# Altium schematic symbol library SCHLib_Bezliudov.SchLib: 179 symbols
Pins are listed as number, name and electrical type; pins without a type are passive.

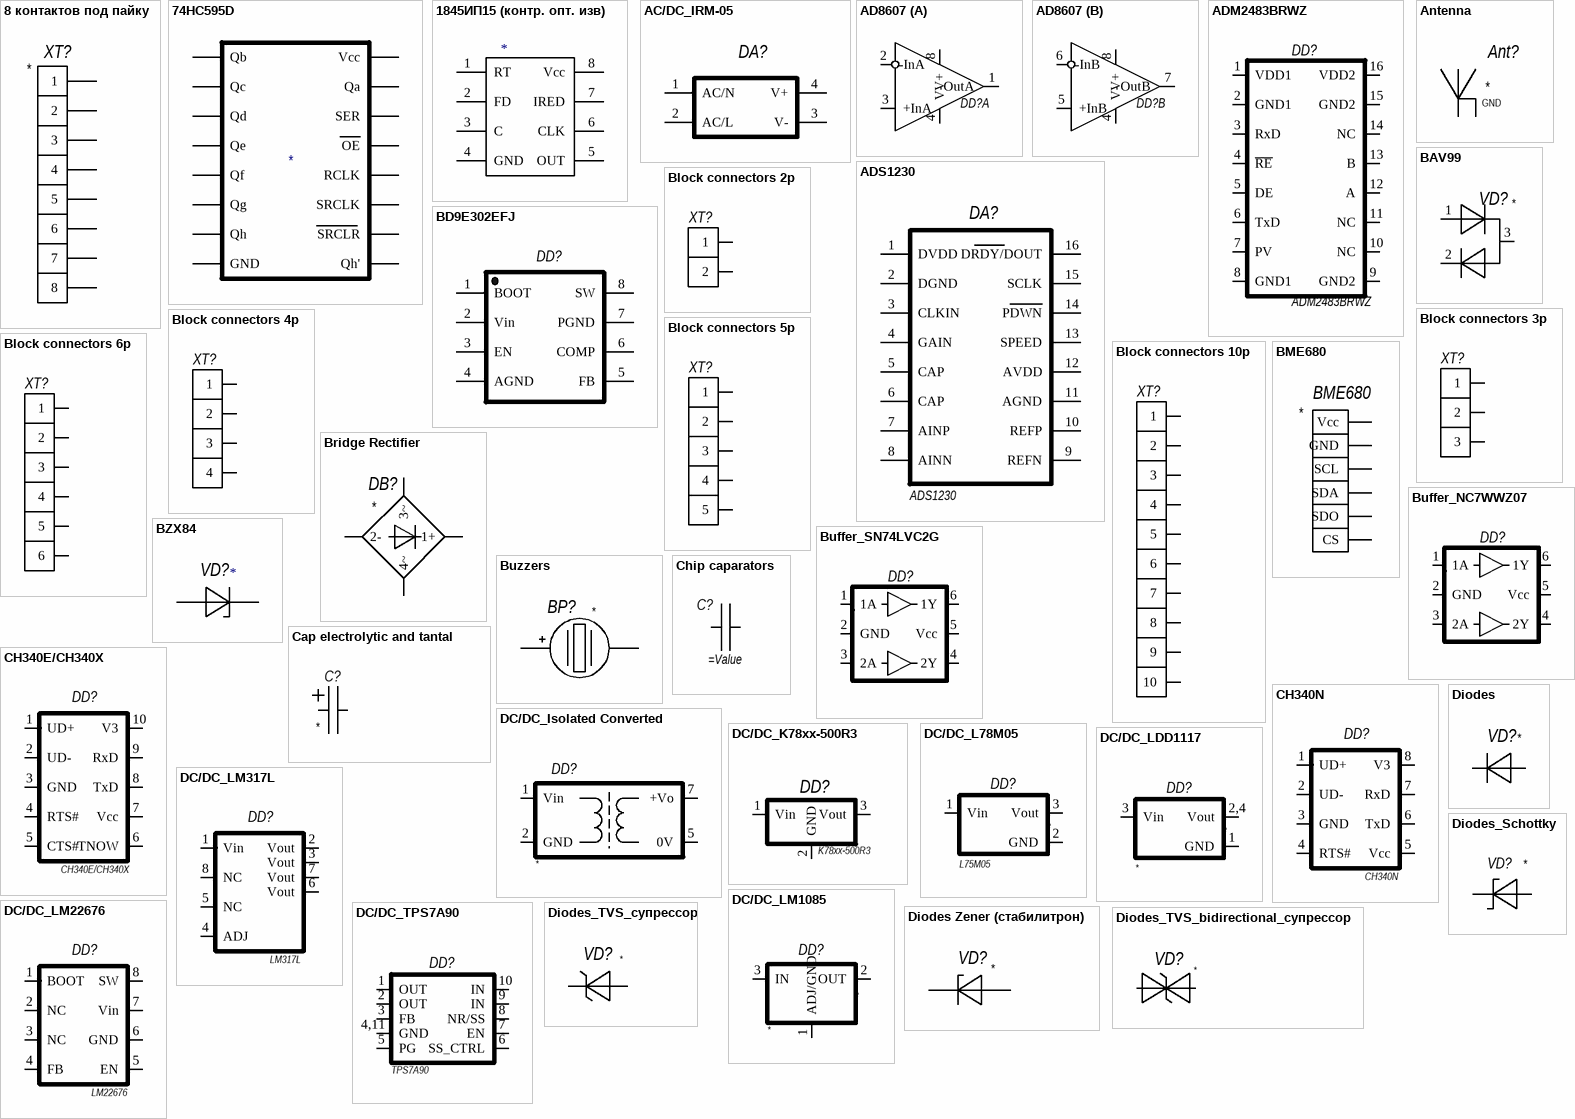
[diagram p0: symbols 8 контактов под пайку to Diodes_TVS_супрессор]

## 8 контактов под пайку
designator XT?
footprint 8 контактов под пайку_шаг 2,5мм
pins: 1, 2, 3, 4, 5, 6, 7, 8

## 74HC595D
designator *
footprint SO-16
pins: 1 Qb, 2 Qc, 3 Qd, 4 Qe, 5 Qf, 6 Qg, 7 Qh, 8 GND, 9 Qh', 10 SRCLR, 11 SRCLK, 12 RCLK, 13 OE, 14 SER, 15 Qa, 16 Vcc

## 1845ИП15 (контр. опт. изв)
designator *  (value not drawn)
footprint SO8
pins: 1 RT, 2 FD, 3 C, 4 GND, 5 OUT, 6 CLK, 7 IRED, 8 Vcc

## AC/DC_IRM-05
designator DA?, comment IRM-05  (value not drawn)
footprint IRM-05-10...
pins: 1 AC/N, 2 AC/L, 3 V-, 4 V+

## AD8607
designator DD?  (value not drawn)
SOIC-8
footprint SO8
part A pins: 1 OutA, 2 -InA, 3 +InA, 4 V-, 8 V+
part B pins: 4 V-, 5 +InB, 6 -InB, 7 OutB, 8 V+

## ADM2483BRWZ
designator DD?
footprint SO-16 Wide Body (RW-16)
pins: 1 VDD1, 2 GND1, 3 RxD, 4 ~{RE}, 5 DE, 6 TxD, 7 PV, 8 GND1, 9 GND2, 10 NC, 11 NC, 12 A, 13 B, 14 NC, 15 GND2, 16 VDD2

## ADS1230
designator DA?
footprint TSSOP16 (TSOP, 20-Leads, Body 6,50x4,40mm, Pitch 0,65mm, IPC Medium Density)
pins: 1 DVDD, 2 DGND, 3 CLKIN, 4 GAIN, 5 CAP, 6 CAP, 7 AINP, 8 AINN, 9 REFN, 10 REFP, 11 AGND, 12 AVDD, 13 SPEED, 14 PDWN, 15 SCLK, 16 DRDY/DOUT

## Antenna
designator Ant?
footprint KLS1-SMA001
footprint KLS1-SMA001 with straight antenna
pins: 1 Ant, 2 GND

## BAV99
designator VD?
footprint SOT-23 micro
footprint SOT-23
pins: 1, 2, 3

## BD9E302EFJ
designator DD?  (value not drawn)
ST1S10PHR: *
footprint BD9E302REFJ (HTSOP-J8)
pins: 1 BOOT, 2 Vin, 3 EN, 4 AGND, 5 FB, 6 COMP, 7 PGND, 8 SW

## Block connectors 2p
designator XT?  (value not drawn)
footprint Block connectors_angle_2pin-5.00mm (~? TLPHC-200R)
pins: 1, 2

## Block connectors 3p
designator XT?  (value not drawn)
footprint Block connectors_angle_3pin-5.00mm (~? TLPHC-200R)
pins: 1, 2, 3

## Block connectors 4p
designator XT?  (value not drawn)
footprint Block connectors_angle_4pin-5.00mm (~? TLPHC-200R)
pins: 1, 2, 3, 4

## Block connectors 5p
designator XT?  (value not drawn)
footprint Block connectors_angle_5pin-5.00mm (~? TLPHC-200R)
pins: 1, 2, 3, 4, 5

## Block connectors 6p
designator XT?  (value not drawn)
footprint Block connectors_angle_6pin-5.00mm (~? TLPHC-200R)
pins: 1, 2, 3, 4, 5, 6

## Block connectors 10p
designator XT?  (value not drawn)
footprint Block connectors_angle_10pin-5.00mm (~? TLPHC-200R)
pins: 1, 2, 3, 4, 5, 6, 7, 8, 9, 10

## BME680
designator BME680
footprint BME680
pins: 1 Vcc, 2 GND, 3 SCL, 4 SDA, 5 SDO, 6 CS

## Bridge Rectifier
designator DB?
footprint Диодный мост DB-107S
footprint MBS
pins: 1+, 2-, 3~, 4~

## Buffer_NC7WWZ07
designator DD?
Open Drain Outputs; ST1S10PHR: *
footprint SC-70-6
pins: 1 1A, 2 GND, 3 2A, 4 2Y, 5 Vcc, 6 1Y

## Buffer_SN74LVC2G
designator DD?
Open Drain Outputs; ST1S10PHR: *
footprint DVB (R-PDSO-G6)
footprint SC-70-6
pins: 1 1A, 2 GND, 3 2A, 4 2Y, 5 Vcc, 6 1Y

## Buzzers
designator BP?
footprint Buzzer KPT-2210
footprint Buzzer KPI-G2210
footprint Buzzer KPI-G1410
pins: 1, 2

## BZX84
designator VD?
footprint SOT-23
pins: 1 Anode, 2 Cathode

## Cap electrolytic and tantal
designator C?
footprint CAP 10mm 13x94mm
footprint Cap K50-35 (шаг5мм)
footprint Cap К50-35 (шаг7.5мм)
footprint Cap K50-35 (2.5x6.3x11mm)
footprint Cap K50-35 (2X5X11mm)
footprint Cap K50-35 (2.5x6.3x11mm) -Andgle
footprint Cap K50-35 (2X5X11mm) angle
footprint Electrolytic cap (13x20x5mm)
footprint Tantal case A
footprint Tantal case B
footprint Tantal case C
footprint Tantal case D
footprint Tantal case E
pins: 1 +, 2 -

## CH340E/CH340X
designator DD?
ST1S10PHR: *
footprint MSOP-10
pins: 1 UD+, 2 UD-, 3 GND, 4 RTS#, 5 CTS#, 6 TNOW, 7 Vcc, 8 TxD, 9 RxD, 10 V3

## CH340N
designator DD?
ST1S10PHR: *
footprint SO8
pins: 1 UD+, 2 UD-, 3 GND, 4 RTS#, 5 Vcc, 6 TxD, 7 RxD, 8 V3

## Chip caparators
designator C?
footprint Cap 0805_h=0,6mm
footprint Cap 0805_h=1.25mm
footprint Cap 1206_h=1.6mm
footprint Cap 1210_h=1,7mm
footprint Cap 0603
footprint Cap 0603 oval
footprint Cap 0805_h=0,6mm oval
footprint Cap 0805_h=1.25mm oval
footprint Cap 1206_h=1.6mm oval
footprint Cap 1210_h=1,7mm oval
footprint Cap 0402 OVAL
footprint Cap 0402
pins: 1 +, 2 -

## DC/DC_Isolated Converted
designator DD?
AM1D, F0505S-1WR3
footprint F0505S Single Output
pins: 1 Vin, 2 GND, 5 0V, 7 +Vo

## DC/DC_K78xx-500R3
designator DD?, comment K78xx-500R3
footprint K78xx-500R3
pins: 1 Vin, 2 GND, 3 Vout

## DC/DC_L78M05
designator DD?, comment L75M05
footprint TO-252 (DPAK)
pins: 1 Vin, 2 GND, 3 Vout

## DC/DC_LDD1117
designator DD?
footprint SOT-223
pins: 1 GND, 2,4 Vout, 3 Vin

## DC/DC_LM317L
designator DD?, comment LM317L
ST1S10PHR: *
footprint SO8
pins: 1 Vin, 2 Vout, 3 Vout, 4 ADJ, 5 NC, 6 Vout, 7 Vout, 8 NC

## DC/DC_LM1085
designator DD?
footprint DDPAK/TO-263 3pins
pins: 1 ADJ/GND, 2 OUT, 3 IN

## DC/DC_LM22676
designator DD?, comment LM22676
ST1S10PHR: *
footprint SO8 with termal pad
pins: 1 BOOT, 2 NC, 3 NC, 4 FB, 5 EN, 6 GND, 7 Vin, 8 SW

## DC/DC_TPS7A90
designator DD?, comment TPS7A90
TPS7A90 / 500-mA, High-Accuracy, Low-Noise LDO Voltage Regulator
footprint WSON-10 (2.5x2.5mm)
pins: 1 OUT, 2 OUT, 3 FB, 4,11 GND, 5 PG , 6 SS_CTRL, 7 EN, 8 NR/SS, 9 IN, 10 IN

## Diodes
designator VD?
footprint MELF/DO-213AB
footprint Diod_017AA
footprint Diod_DO-15
footprint Diod_DO-41
footprint Diod_DO-201
footprint SOD-80
footprint SOT-23 diod
footprint SOD-123
pins: 1, 2

## Diodes Zener (стабилитрон)
designator VD?
footprint SOD-80
footprint Zener Diode 1N5358_19mm (DO-15, DO-201AE)
footprint Zener Diode 1N5358_15.24mm (DO-15, DO-201AE)
footprint Zener Diode 1N5352_12mm (017AA)
footprint Diod_017AA
footprint Diod_DO-15
footprint Diod_DO-41
footprint Diod_DO-201
footprint SMB 403A-03
pins: 1, 2

## Diodes_Schottky
designator VD?
footprint Diod_shottki_SK16
footprint Diod_017AA
footprint Diod_DO-15
footprint Diod_DO-41
footprint Diod_DO-201
footprint Diod_DO-201_Pnanar
footprint DO-214AB, SMC
footprint DO-214AC, SMA
pins: 1, 2

## Diodes_TVS_bidirectional_супрессор
designator VD?
footprint DO-214AB, SMC, bidirectional (bidirectional)
footprint DO-214AA, SMB, bidirectional (bidirectional)
pins: 1, 2

## Diodes_TVS_супрессор
designator VD?
footprint SM6T
footprint Diod_017AA
footprint Diod_DO-15
footprint Diod_DO-41
footprint Diod_DO-201
footprint DO-214AB, SMC
footprint DO-214AA, SMB
pins: 1, 2

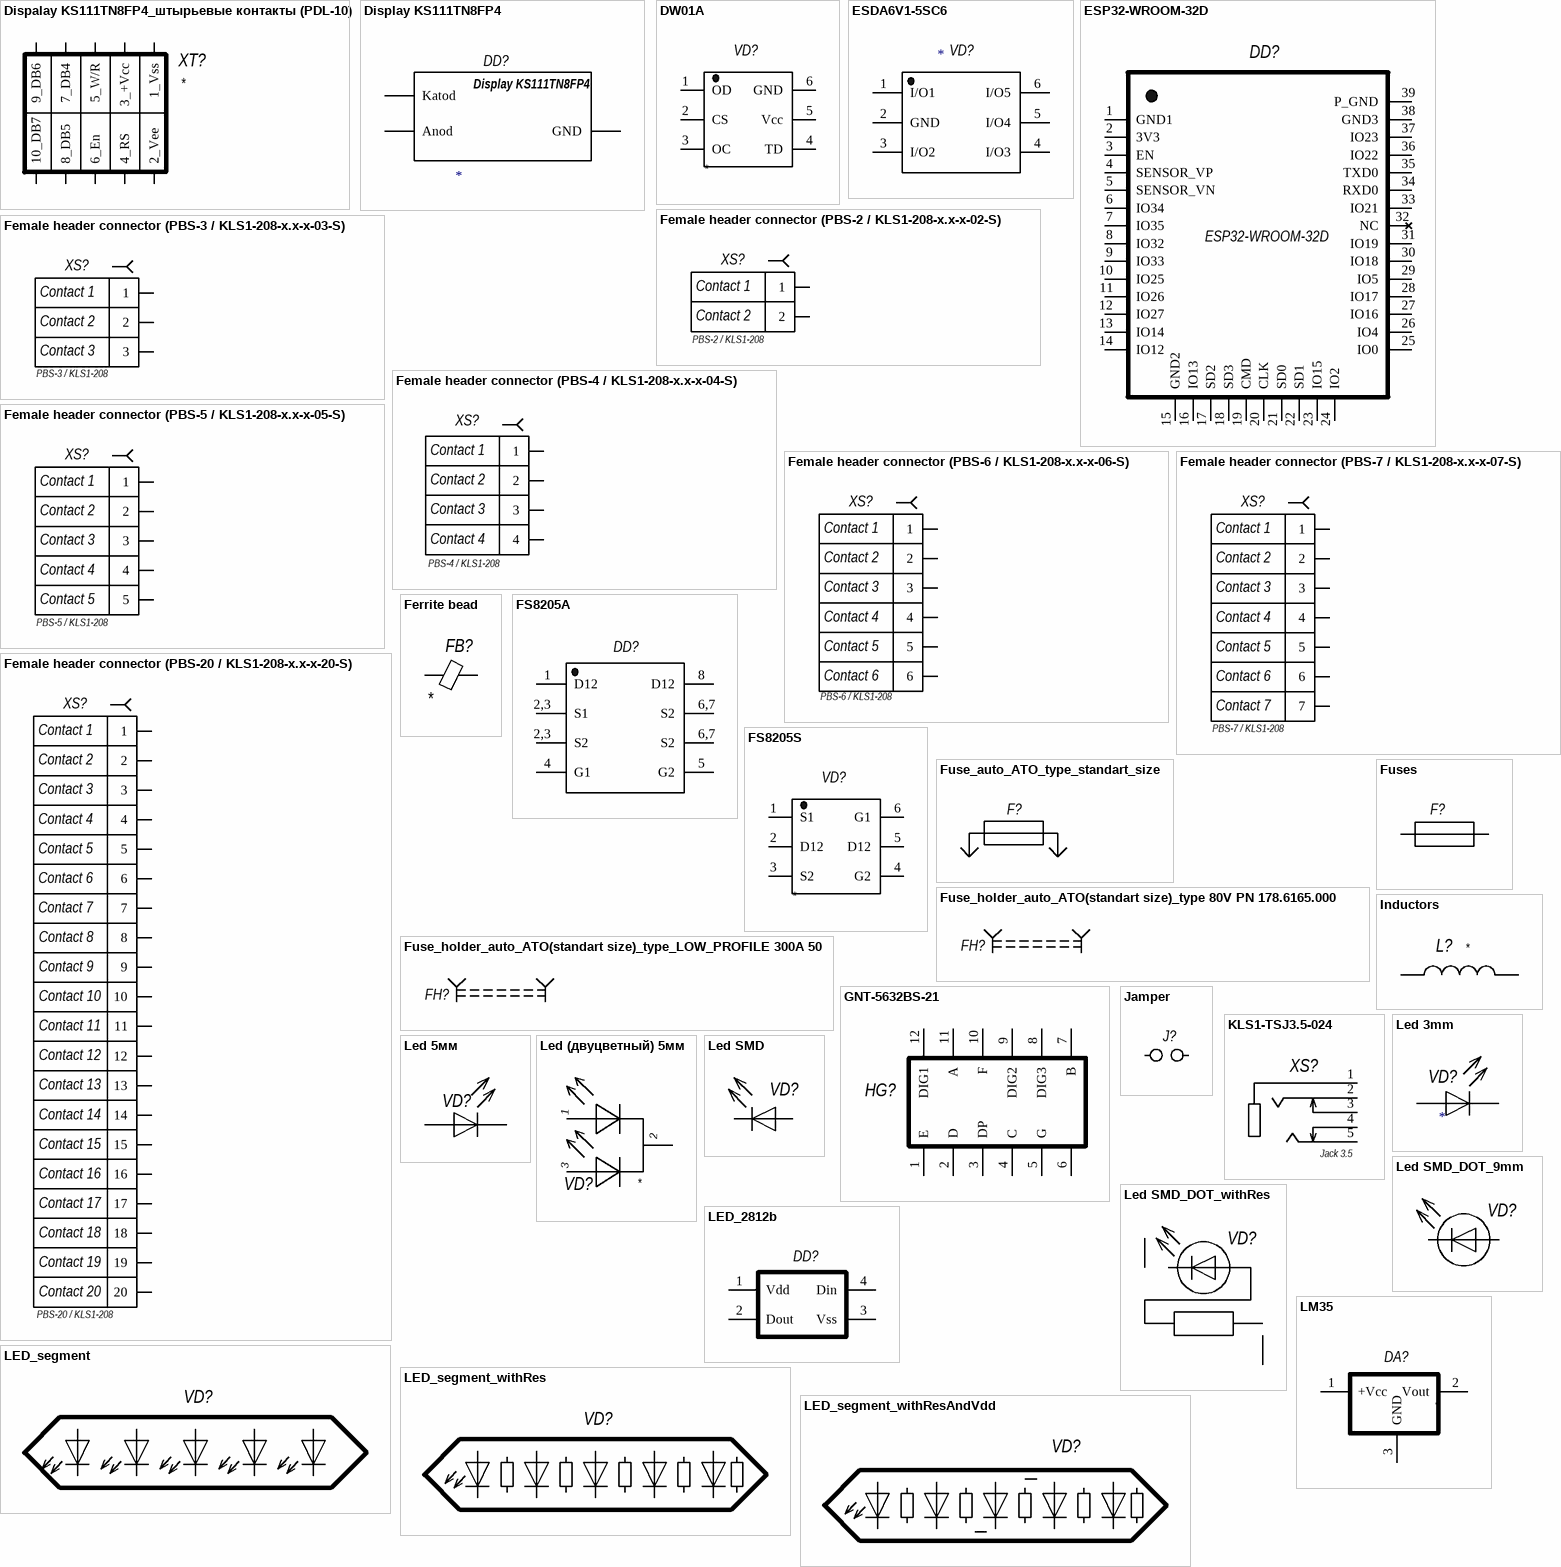
[diagram p1: symbols Dispalay KS111TN8FP4_штырьевые контакты (PDL-10) to LM35]

## Dispalay KS111TN8FP4_штырьевые контакты (PDL-10)
designator XT?
footprint PLD-10 (Штыри 2.54) for display KS118TN8FP4
pins: 1 1_Vss, 2 2_Vee, 3 3_+Vcc, 4 4_RS, 5 5_W/R, 6 6_En, 7 7_DB4, 8 8_DB5, 9 9_DB6, 10 10_DB7

## Display KS111TN8FP4
designator DD?
footprint Display KS111TN8FP4
pins: 1 GND, A Anod, K Katod

## DW01A
designator VD?
ST1S10PHR: *
footprint SOT23-6L
pins: 1 OD, 2 CS, 3 OC, 4 TD, 5 Vcc, 6 GND

## ESDA6V1-5SC6
designator VD?
ST1S10PHR: *
footprint SOT23-6L
pins: 1 I/O1, 2 GND, 3 I/O2, 4 I/O3, 5 I/O4, 6 I/O5

## ESP32-WROOM-32D
designator DD?
STM8S105: *
footprint ESP32_WROOM-32D
pins: 1 GND1, 2 3V3, 3 EN, 4 SENSOR_VP, 5 SENSOR_VN, 6 IO34, 7 IO35, 8 IO32, 9 IO33, 10 IO25, 11 IO26, 12 IO27, 13 IO14, 14 IO12, 15 GND2, 16 IO13, 17 SD2, 18 SD3, 19 CMD, 20 CLK, 21 SD0, 22 SD1, 23 IO15, 24 IO2, 25 IO0, 26 IO4, 27 IO16, 28 IO17, 29 IO5, 30 IO18, 31 IO19, 32 NC, 33 IO21, 34 RXD0, 35 TXD0, 36 IO22, 37 IO23, 38 GND3, 39 P_GND

## Female header connector (PBS-2 / KLS1-208-x.x-x-02-S)
designator XS?, comment PBS-2 / KLS1-208
Contact 2: Contact 2; Contact 1: Contact 1
footprint PBS-2 (DS1023) 2.54x8.5
footprint PBS-2 (DS1023) 2.54x5.0
pins: 1, 2

## Female header connector (PBS-3 / KLS1-208-x.x-x-03-S)
designator XS?, comment PBS-3 / KLS1-208
Contact 3: Contact 3; Contact 2: Contact 2; Contact 1: Contact 1
footprint PBS-3(DS1023) 2.54x8.5
footprint PBS-3(DS1023) 2.54x5.0
pins: 1, 2, 3

## Female header connector (PBS-4 / KLS1-208-x.x-x-04-S)
designator XS?, comment PBS-4 / KLS1-208
Contact 4: Contact 4; Contact 3: Contact 3; Contact 2: Contact 2; Contact 1: Contact 1
footprint PBS-4 (DS1023) 2.54x8.5
footprint PBS-4 (DS1023) 2.54x5.0
pins: 1, 2, 3, 4

## Female header connector (PBS-5 / KLS1-208-x.x-x-05-S)
designator XS?, comment PBS-5 / KLS1-208
Contact 5: Contact 5; Contact 4: Contact 4; Contact 3: Contact 3; Contact 2: Contact 2; Contact 1: Contact 1
footprint PBS-5 (DS1023) 2.54x8.5
footprint PBS-5 (DS1023) 2.54x5.0
pins: 1, 2, 3, 4, 5

## Female header connector (PBS-6 / KLS1-208-x.x-x-06-S)
designator XS?, comment PBS-6 / KLS1-208
Contact 6: Contact 6; Contact 5: Contact 5; Contact 4: Contact 4; Contact 3: Contact 3; Contact 2: Contact 2; Contact 1: Contact 1
footprint PBS-6 (DS1023) 2.54x8.5
footprint PBS-6 (DS1023) 2.54x5.0
pins: 1, 2, 3, 4, 5, 6

## Female header connector (PBS-7 / KLS1-208-x.x-x-07-S)
designator XS?, comment PBS-7 / KLS1-208
Contact 7: Contact 7; Contact 6: Contact 6; Contact 5: Contact 5; Contact 4: Contact 4; Contact 3: Contact 3; Contact 2: Contact 2; Contact 1: Contact 1
footprint PBS-7 (DS1023) 2.54x8.5
footprint PBS-7 (DS1023) 2.54x5.0
pins: 1, 2, 3, 4, 5, 6, 7

## Female header connector (PBS-20 / KLS1-208-x.x-x-20-S)
designator XS?, comment PBS-20 / KLS1-208
Contact 20: Contact 20; Contact 19: Contact 19; Contact 18: Contact 18; Contact 17: Contact 17; Contact 16: Contact 16; Contact 15: Contact 15; Contact 14: Contact 14; Contact 13: Contact 13; Contact 12: Contact 12; Contact 11: Contact 11; Contact 10: Contact 10; Contact 9: Contact 9; Contact 8: Contact 8; Contact 7: Contact 7; Contact 6: Contact 6; Contact 5: Contact 5; Contact 4: Contact 4; Contact 3: Contact 3; Contact 2: Contact 2; Contact 1: Contact 1
footprint PBS-20 (DS1023) 2.54x8.5
footprint PBS-20 (DS1023) 2.54x5.0
pins: 1, 2, 3, 4, 5, 6, 7, 8, 9, 10, 11, 12, 13, 14, 15, 16, 17, 18, 19, 20

## Ferrite bead
designator FB?
Model: *; Manufacture: *; HelpURL: *; Case: *; Value: *
footprint Ferrite Bead 0805
footprint Ferrite Bead 1206
pins: 1 *, 2 *

## FS8205A
designator DD?
ST1S10PHR: *
footprint TSSOP8 (TSOP, 20-Leads, Body 6,50x4,40mm, Pitch 0,65mm, IPC Medium Density)
pins: 1 D12, 2,3 S1, 2,3 S2, 4 G1, 5 G2, 6,7 S2, 6,7 S2, 8 D12

## FS8205S
designator VD?
ST1S10PHR: *
footprint SOT23-6L
pins: 1 S1, 2 D12, 3 S2, 4 G2, 5 D12, 6 G1

## Fuse_auto_ATO_type_standart_size
designator F?, comment xxA xxV  (value not drawn)
Fuse_auto_ATO_type_standart_size; Model: *; Manufacture: *; HelpURL: *; Case: *; Value: *
footprint Fuse_auto_ATO_type_standart_size_YELLOW (P/n 178.6165.0001, 178.6165.0002.  https://www.littelfuse.com/~/media/commercial-vehicle/datasheets/automotive-fuse-holders/ato/littelfuse-fuse-holder-ato-flr-pcb-datasheet.pdf)
footprint Fuse_auto_ATO_type_standart_size_RED (P/n 178.6165.0001, 178.6165.0002.  https://www.littelfuse.com/~/media/commercial-vehicle/datasheets/automotive-fuse-holders/ato/littelfuse-fuse-holder-ato-flr-pcb-datasheet.pdf)
footprint Fuse_auto_ATO_type_standart_size_PURPURE (P/n 178.6165.0001, 178.6165.0002.  https://www.littelfuse.com/~/media/commercial-vehicle/datasheets/automotive-fuse-holders/ato/littelfuse-fuse-holder-ato-flr-pcb-datasheet.pdf)
footprint Fuse_auto_ATO_type_standart_size_GREEN (P/n 178.6165.0001, 178.6165.0002.  https://www.littelfuse.com/~/media/commercial-vehicle/datasheets/automotive-fuse-holders/ato/littelfuse-fuse-holder-ato-flr-pcb-datasheet.pdf)
footprint Fuse_auto_ATO_type_standart_size_BROWN (P/n 178.6165.0001, 178.6165.0002.  https://www.littelfuse.com/~/media/commercial-vehicle/datasheets/automotive-fuse-holders/ato/littelfuse-fuse-holder-ato-flr-pcb-datasheet.pdf)
footprint Fuse_auto_ATO_type_standart_size_BLUE_LIGHT (P/n 178.6165.0001, 178.6165.0002.  https://www.littelfuse.com/~/media/commercial-vehicle/datasheets/automotive-fuse-holders/ato/littelfuse-fuse-holder-ato-flr-pcb-datasheet.pdf)
footprint Fuse_auto_ATO_type_standart_size_BLUE (P/n 178.6165.0001, 178.6165.0002.  https://www.littelfuse.com/~/media/commercial-vehicle/datasheets/automotive-fuse-holders/ato/littelfuse-fuse-holder-ato-flr-pcb-datasheet.pdf)

## Fuse_holder_auto_ATO(standart size)_type 80V PN 178.6165.000(1/2)
designator FH?, comment Fuse_holder PN 178.6165.000(1/2)  (value not drawn)
Fuse_holder_auto_ATO_type. PCB DIP mount. 2 or 8 pins. 80V https://www.littelfuse.com/media?resourcetype=datasheets&itemid=bef6771d-7ae2-4b18-8f55-8cde6402100a&filename=littelfuse-ato-flr-datasheet            https://aliexpress.ru/item/1005005184719801.html?spm=a2g2w.detail.rcmdprod.19.2bf912cb45UC37&mixer_rcmd_bucket_id=aerabtestalgoRecommendAbV14_controlRu1&ru_algo_pv_id=ab93ca-476f2e-eca094-b7133c-1706266800&scenario=pcDetailBottomMoreOtherSeller&sku_id=12000032019297144&traffic_source=recommendation&type_rcmd=core; Model: *; Manufacture: *; HelpURL: *; Case: *; Value: *
footprint Fuse_holder_auto_ATO(standart size)_type 22.5 A continuous current, 30A max (P/n 178.6165.0001, 178.6165.0002.  https://www.littelfuse.com/~/media/commercial-vehicle/datasheets/automotive-fuse-holders/ato/littelfuse-fuse-holder-ato-flr-pcb-datasheet.pdf)
pins: 1 *, 2 *

## Fuse_holder_auto_ATO(standart size)_type_LOW_PROFILE 300A 500V. PN 01000062Z
designator FH?, comment Fuse_holder_low_profile PN 01000062Z  (value not drawn)
Fuse_holder_auto_ATO(standart size)_type_LOW_PROFILE 300A 500V. PCB DIP mount. 4 pins. https://www.littelfuse.com/products/fuse-blocks-fuseholders-and-fuse-accessories/fuse-clips/100/100060.aspx; Model: *; Manufacture: *; HelpURL: *; Case: *; Value: *
footprint Fuse_holder_auto_ATO(standart size)_type_LOW_PROFILE 300A 500V (P/n 101000062Z.  https://www.littelfuse.com/products/fuse-blocks-fuseholders-and-fuse-accessories/fuse-clips/100.aspx)
pins: 1 *, 2 *

## Fuses
designator F?
Model: *; Manufacture: *; HelpURL: *; Case: *; Value: *
footprint FUSE SN010-60
footprint Fuse KL-104-90-2A
footprint Fuse R0603
footprint Fuse R0805
footprint Fuse R1206
footprint Fuse microSMDxxxF Series (3225mm/1210mils) (3225mm/1210mils)
footprint FUSE SMDxxxF Series (8763mm/3425mils) (8763mm/3425mils)
footprint FUSE SMDxxxF Series (7555mm/2920mils) (7555mm/2920mils)
pins: 1 *, 2 *

## GNT-5632BS-21
designator HG?, comment Common anod  (value not drawn)
footprint GNT-5632BS-21
pins: 1 E, 2 D, 3 DP, 4 C, 5 G, 6, 7 B, 8 DIG3, 9 DIG2, 10 F, 11 A, 12 DIG1

## Inductors
designator L?
footprint Inductors LQH55
footprint R1206-inductor
footprint Inductor CLF7045
footprint Inductor EC24
footprint Inductor SPRH127
footprint Inductors CD43
footprint Inductor CKST-0402
footprint 0603 inductor plane
footprint 0805 inductor plane
footprint 1206 inductor plane
footprint 1210 inductor plane
footprint DO3316P (SMT Power Inductor)
pins: 1, 2

## Jamper
designator J?
Model: *; Manufacture: *; HelpURL: *; Case: *; Value: *
footprint Jamper trace 1.4 x 0.3 clearence 0.2 (1.4 x 0.3 clearence 0.2)
footprint Jamper 1.3 x 0.4 clearence 0.2 (1.3 x 0.4 clearence 0.2)
footprint Jumper trace 0.6x2mm clearence 0.25mm
pins: 1 *, 2 *

## KLS1-TSJ3.5-024
designator XS?, comment Jack 3.5
footprint JC-115 / KLS1-TSJ3.5-024 (Jack 3.5)
pins: 1, 2, 3, 4, 5

## Led 3mm
designator VD?
footprint Led 3mm
pins: 1 *, 2 *

## Led 5мм
designator VD?  (value not drawn)
footprint Led 5mm
footprint Led 5mm Green
footprint Led 5mm White
footprint Led 5mm_низкий
footprint Led двуцв. 5мм._низкий
footprint Led 5mm 25мм
pins: 1 *, 2 *

## Led (двуцветный) 5мм
designator *, comment VD?
footprint Led двуцв. 5мм.
footprint Led двуцв. 5мм._низкий
footprint Led двуцв. 5мм. со стойкой 7,25мм
footprint Led двуцв. 5мм. со стойкой 10,7мм
footprint Led двуцв. 5мм. со стойкой 12,7мм
pins: 1, 2, 3

## Led SMD
designator VD?  (value not drawn)
footprint LED_0603_Blue
footprint LED_0603_Green
footprint LED_0603_RED
footprint LED_0603_Yellow
footprint LED_0805_RED
pins: 1 *, 2 *

## Led SMD_DOT_9mm
designator VD?  (value not drawn)
footprint LED_0805_RED_DOT_9mm
pins: 1 *, 2 *

## Led SMD_DOT_withRes
designator VD?  (value not drawn)
footprint LED_0805_RED_DOT_9mm_withRes
pins: 1 *, 1 *, 2 *, 2 *, 3 *, 3 *

## LED_2812b
designator DD?, comment 2812b  (value not drawn)
ST1S10PHR: *
footprint Led_2812b
pins: 1 Vdd, 2 Dout, 3 Vss, 4 Din

## LED_segment
designator VD?  (value not drawn)
footprint LED_segment_48mm
footprint LED_segment_44mm
pins: 1 *, 2 *, 3 *, 4 *, 5 *, 6 *, 7 *, 8 *, 9 *, 10 *

## LED_segment_withRes
designator VD?  (value not drawn)
footprint LED_segment_48mm_commonCat_withRes
footprint LED_segment_44mm_commonCat_withRes
pins: 1 *, 2 *, 3 *, 4 *, 5 *, 6 *, 7 *, 8 *, 9 *, 10 *, 11 *, 12 *, 13 *, 14 *, 15 *, 16 *, 17 *, 18 *, 19 *, 20 *

## LED_segment_withResAndVdd
designator VD?  (value not drawn)
footprint LED_segment_48mm_commonCat_withResAndVdd
pins: 1 GND, 1 GND, 1 GND, 1 GND, 1 GND, 1 *, 2 +V, 2 +V, 2 +V, 2 +V, 2 +V, 2 *, 3 *, 3 *, 4 *, 4 *, 5 *, 5 *, 6 *, 6 *, 7 *, 7 *

## LM35
designator DA?, comment TO-92  (value not drawn)
footprint TO-92 _Straight
footprint TO-92_Formed_1
footprint TO-Formed_2
footprint TO-Formed_3
pins: 1 +Vcc, 2 Vout, 3 GND

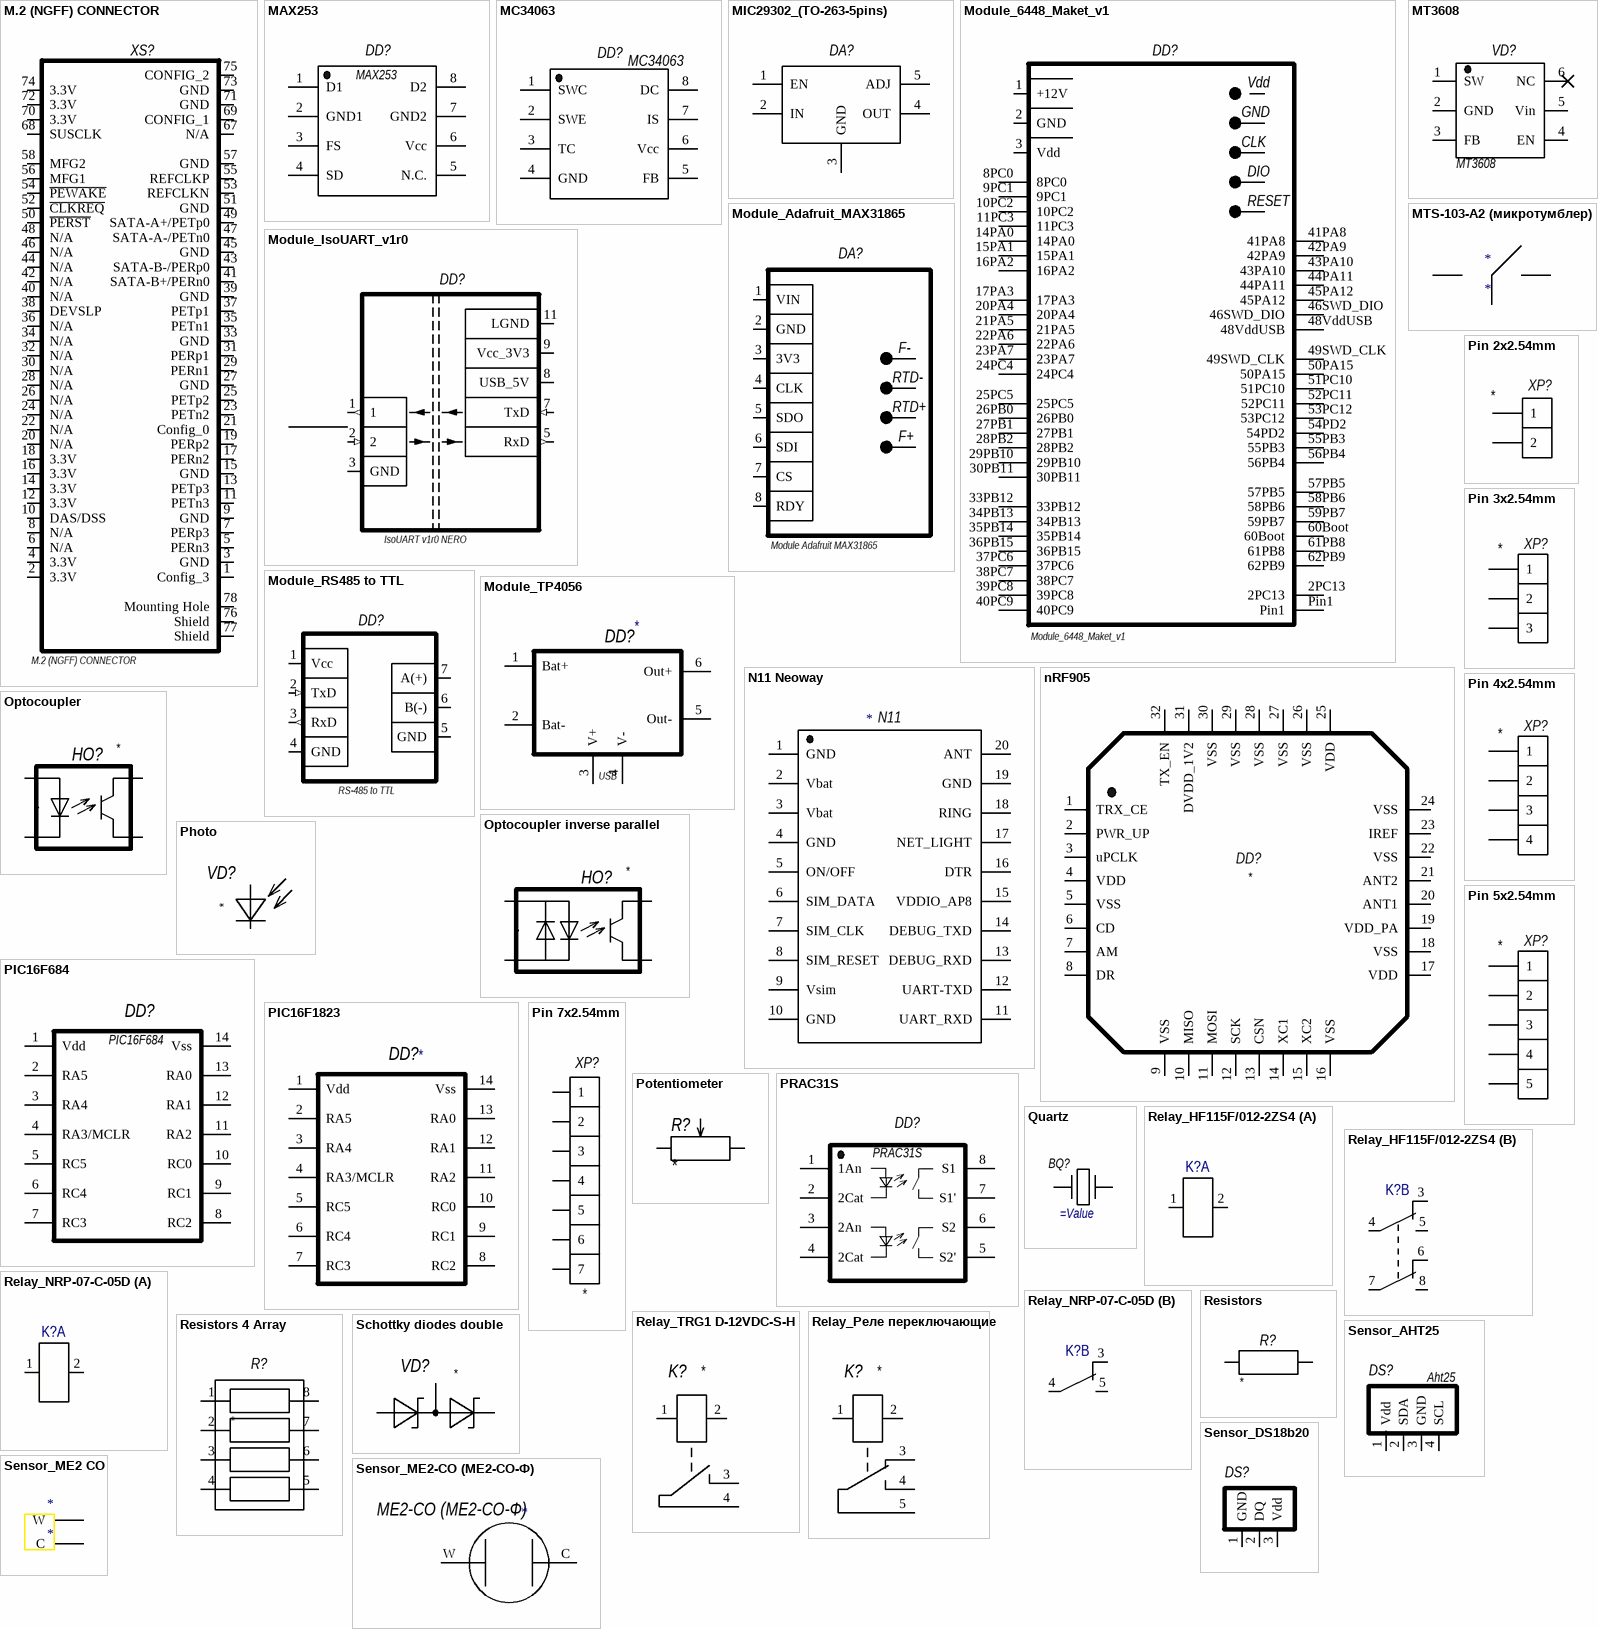
[diagram p2: symbols M.2 (NGFF) CONNECTOR to Sensor_ME2-CO (ME2-CO-Ф)]

## M.2 (NGFF) CONNECTOR
designator XS?
footprint AS0BC21-S30BM-7H (M.2 (NGFF) Connector, key M, typesize 2230)
pins: 1 Config_3, 2 3.3V, 3 GND, 4 3.3V, 5 PERn3, 6 N/A, 7 PERp3, 8 N/A, 9 GND, 10 DAS/DSS, 11 PETn3, 12 3.3V, 13 PETp3, 14 3.3V, 15 GND, 16 3.3V, 17 PERn2, 18 3.3V, 19 PERp2, 20 N/A, 21 Config_0, 22 N/A, 23 PETn2, 24 N/A, 25 PETp2, 26 N/A, 27 GND, 28 N/A, 29 PERn1, 30 N/A, 31 PERp1, 32 N/A, 33 GND, 34 N/A, 35 PETn1, 36 N/A, 37 PETp1, 38 DEVSLP, 39 GND, 40 N/A, 41 SATA-B+/PERn0, 42 N/A, 43 SATA-B-/PERp0, 44 N/A, 45 GND, 46 N/A, 47 SATA-A-/PETn0, 48 N/A, 49 SATA-A+/PETp0, 50 ~{PERST}, 51 GND, 52 ~{CLKREQ}, 53 REFCLKN, 54 ~{PEWAKE}, 55 REFCLKP, 56 MFG1, 57  GND, 58 MFG2, 67 N/A, 68 SUSCLK, 69  CONFIG_1, 70 3.3V, 71 GND, 72 3.3V, 73 GND, 74 3.3V, 75 CONFIG_2, 76 Shield, 77 Shield, 78 Mounting Hole

## MAX253
designator DD?
ST1S10PHR: *
footprint SOIC-8
pins: 1 D1, 2 GND1, 3 FS, 4 SD, 5 N.C., 6 Vcc, 7 GND2, 8 D2

## MC34063
designator DD?
ST1S10PHR: *
footprint SO8
pins: 1 SWC, 2 SWE, 3 TC, 4 GND, 5 FB, 6 Vcc, 7 IS, 8 DC

## MIC29302_(TO-263-5pins)
designator DA?  (value not drawn)
ST1S10PHR: *
footprint TO-263 5pins
pins: 1 EN, 2 IN, 3 GND, 4 OUT, 5 ADJ

## Module_6448_Maket_v1
designator DD?
footprint 6448_Maket_v1r0
pins: 1 +12V, 2 GND, 2PC13, 3 Vdd, 8PC0, 9PC1, 10PC2, 11PC3, 14PA0, 15PA1, 16PA2, 17PA3, 20PA4, 21PA5, 22PA6, 23PA7, 24PC4, 25PC5, 26PB0, 27PB1, 28PB2, 29PB10, 30PB11, 33PB12, 34PB13, 35PB14, 36PB15, 37PC6, 38PC7, 39PC8, 40PC9, 41PA8, 42PA9, 43PA10, 44PA11, 45PA12, 46SWD_DIO, 48VddUSB, 49SWD_CLK, 50PA15, 51PC10, 52PC11, 53PC12, 54PD2, 55PB3, 56PB4, 57PB5, 58PB6, 59PB7, 60Boot, 61PB8, 62PB9, Pin1
text: CLK; DIO; RESET

## Module_Adafruit_MAX31865
designator DA?, comment Module Adafruit MAX31865
footprint MAX31865_AdafriutModule
pins: 1 VIN, 2 GND, 3 3V3, 4 CLK, 5 SDO, 6 SDI, 7 CS, 8 RDY
text: F-; RTD-; RTD+; F+

## Module_IsoUART_v1r0
designator DD?, comment IsoUART v1r0 NERO
footprint IsoUART_v1r0 (1xPBS-3, 1xPBS-8, 1xPLS-3, 1xPLS-8)
pins: 1 (out), 2 (in), 3 GND, 5 RxD (out), 7 TxD (in), 8 USB_5V, 9 Vcc_3V3, 11 LGND

## Module_RS485 to TTL
designator DD?, comment RS-485 to TTL
footprint RS485_to_TTL_Module (1xPBS-4, 1xPBS-5)
pins: 1 Vcc, 2 TxD (in), 3 RxD (out), 4 GND, 5 GND, 6 B(-), 7 A(+)

## Module_TP4056
designator DD?
footprint TP4056_MODUL
pins: 1 Bat+, 2 Bat-, 3 V+, 4 V-, 5 Out-, 6 Out+
text: USB

## MT3608
designator VD?
ST1S10PHR: *
footprint SOT23-6L
pins: 1 SW, 2 GND, 3 FB, 4 EN, 5 Vin, 6 NC

## MTS-103-A2 (микротумблер)
designator *
footprint Микротумблер MTS-103
pins: 1, 2, 3

## N11 Neoway
designator N11
footprint N11 Neoway
pins: 1 GND, 2 Vbat, 3 Vbat, 4 GND, 5 ON/OFF, 6 SIM_DATA, 7 SIM_CLK, 8 SIM_RESET, 9 Vsim, 10 GND, 11 UART_RXD, 12 UART-TXD, 13 DEBUG_RXD, 14 DEBUG_TXD, 15 VDDIO_AP8, 16 DTR, 17 NET_LIGHT, 18 RING, 19 GND, 20 ANT

## nRF905
designator DD?
STM8S105: *
footprint QFN-32L (5x5)
pins: 1 TRX_CE, 2 PWR_UP, 3 uPCLK, 4 VDD, 5 VSS, 6 CD, 7 AM, 8 DR, 9 VSS, 10 MISO, 11 MOSI, 12 SCK, 13 CSN, 14 XC1, 15 XC2, 16 VSS, 17 VDD, 18 VSS, 19 VDD_PA, 20 ANT1, 21 ANT2, 22 VSS, 23 IREF, 24 VSS, 25 VDD, 26 VSS, 27 VSS, 28 VSS, 29 VSS, 30 VSS, 31 DVDD_1V2, 32 TX_EN

## Optocoupler
designator HO?
footprint DIP-4 8.0x2.54
footprint PDIP-4 (SMD-4)
pins: 1, 2, 3, 4

## Optocoupler inverse parallel
designator HO?
footprint DIP-4 8.0x2.54
footprint PDIP-4
pins: 1, 2, 3, 4

## Photo
designator VD?
footprint LED and Photo 2.54
footprint PhotoLed_DIP
pins: 1 *, 2 *

## PIC16F684
designator DD?
footprint SOIC-14
pins: 1 Vdd, 2 RA5, 3 RA4, 4 RA3/MCLR, 5 RC5, 6 RC4, 7 RC3, 8 RC2, 9 RC1, 10 RC0, 11 RA2, 12 RA1, 13 RA0, 14 Vss

## PIC16F1823
designator DD?
footprint SOIC-14
pins: 1 Vdd, 2 RA5, 3 RA4, 4 RA3/MCLR, 5 RC5, 6 RC4, 7 RC3, 8 RC2, 9 RC1, 10 RC0, 11 RA2, 12 RA1, 13 RA0, 14 Vss

## Pin 2x2.54mm
designator *, comment XP?
footprint Jumper 2x2.54
footprint Pin 2x2.54
pins: 1, 2

## Pin 3x2.54mm
designator *, comment XP?
footprint Pin 3x2.54
pins: 1, 2, 3

## Pin 4x2.54mm
designator *, comment XP?
footprint Pin 4x2.54
footprint PBS-4 (DS1023) 2.54x8.5
footprint PBS-4R (DS1024) 2.54x8.5
pins: 1, 2, 3, 4

## Pin 5x2.54mm
designator *, comment XP?
footprint Pin 5x2.54
footprint Pin (B5B-XH-A) 5x2.5
footprint WF-5_(DS1070-5M)
pins: 1, 2, 3, 4, 5

## Pin 7x2.54mm
designator XP?
footprint Pin 7x2.54
pins: 1, 2, 3, 4, 5, 6, 7

## Potentiometer
designator R?
Model: *; Manufacture: *; HelpURL: *; Case: *; Value: *
footprint Подстроечный резистор
footprint Potentiometer 3329H
footprint Potentiometer 3296W
footprint Bourns_3006P_MFG
pins: 1 *, 2 *, 3 *

## PRAC31S
designator DD?
ST1S10PHR: *
footprint SOP-8 PRAC31
pins: 1 1An, 2 2Cat, 3 2An, 4 2Cat, 5 S2', 6 S2, 7 S1', 8 S1

## Quartz
designator BQ?
footprint Quartz HC49SM
footprint Quartz 8x3.8mm
footprint Quartz HC49S
pins: 1, 2

## Relay_HF115F/012-2ZS4
designator K?
HF115F/012-2ZS4
footprint HF115F/012-2ZS4 (L x W, 29mm x 15.7mm)
part A pins: 1, 2
part B pins: 3, 4, 5, 6, 7, 8

## Relay_NRP-07-C-05D
designator K?
NRP-07-C-05D
footprint NRP-07-C-05D (L x W, 18.7mm x 15.4mm)
part A pins: 1, 2
part B pins: 3, 4, 5

## Relay_TRG1 D-12VDC-S-H
designator K?
footprint Реле TRG1 D-12VDC-S-H
pins: 1, 2, 3, 4

## Relay_Реле переключающие
designator K?
footprint Реле HK4100F
footprint Реле NRP07-C12D
pins: 1, 2, 3, 4, 5

## Resistors
designator R?
Model: *; Manufacture: *; HelpURL: *; Case: *; Value: *
footprint Res21mm
footprint Res 10x4
footprint R0603
footprint R0805
footprint R1206
footprint R1210
footprint R2010
footprint R2512
footprint R0603 oval
footprint R0805 oval
footprint R1206 oval
footprint R1210 oval
footprint Res MF-25 vertical
footprint Res MF-25
footprint R0402 OVAL
footprint R0402
pins: 1 *, 2 *

## Resistors 4 Array
designator R?
Model: *; Manufacture: *; HelpURL: *; Case: *; Value: *
footprint R0603x4 (Case SMD1206)
pins: 1 *, 2 *, 3 *, 4 *, 5 *, 6 *, 7 *, 8 *

## Schottky diodes double
designator VD?
footprint SOT-23
pins: 1, 2, 3

## Sensor_AHT25
designator DS?, comment Aht25
footprint AHT25
pins: 1 Vdd, 2 SDA, 3 GND, 4 SCL

## Sensor_DS18b20
designator DS?  (value not drawn)
footprint TO-92_Formed_1
pins: 1 GND, 2 DQ, 3 Vdd

## Sensor_ME2 CO
designator *
footprint ME2 CO
pins: 1W W, 2C C

## Sensor_ME2-CO (ME2-CO-Ф)
designator ME2-CO (ME2-CO-Ф)
footprint ME2-CO (МЕ2-СО-Ф)
pins: C, W

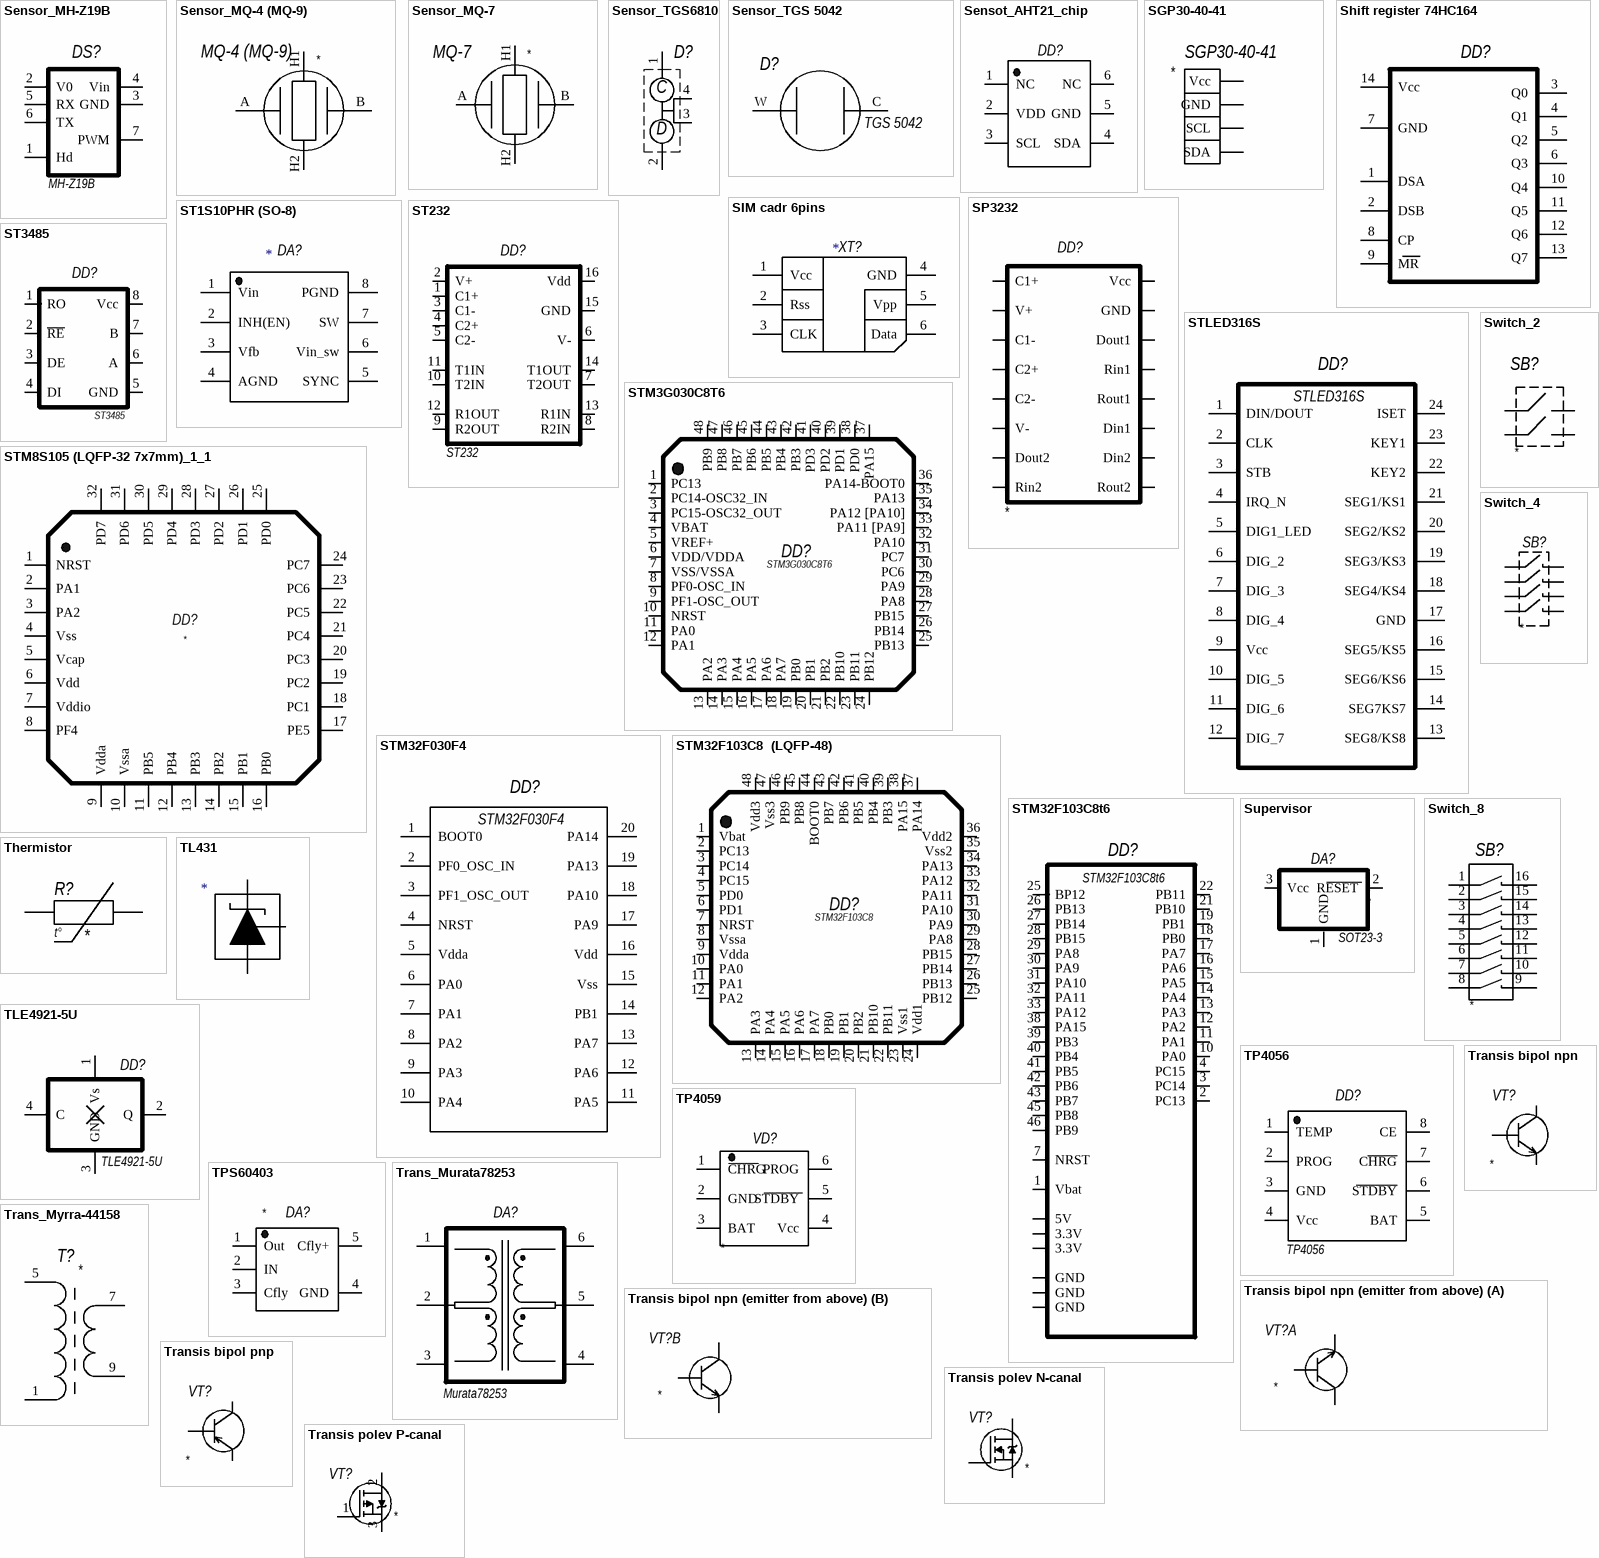
[diagram p3: symbols Sensor_MH-Z19B to Transis polev P-canal]

## Sensor_MH-Z19B
designator DS?, comment MH-Z19B
STM8S105: *
footprint MH-Z19B
pins: 1 Hd, 2 V0, 3 GND, 4 Vin, 5 RX, 6 TX, 7 PWM

## Sensor_MQ-4 (MQ-9)
designator MQ-4 (MQ-9)
footprint MQ-4 (MQ-9)
pins: A, B, H1, H2

## Sensor_MQ-7
designator MQ-7
footprint MQ-7
pins: A, B, H1, H2

## Sensor_TGS6810
designator D?
Model: *; Manufacture: *; HelpURL: *; Case: *; Value: *
footprint TGS6810
pins: 1, 2, 3, 4
text: C; D

## Sensor_TGS 5042
designator D?, comment TGS 5042
footprint TGS 5042
pins: C Counter electrode, W Working electrode

## Sensot_AHT21_chip
designator DD?, comment AHT21  (value not drawn)
ST1S10PHR: *
footprint AHT21_chip
pins: 1 NC, 2 VDD, 3 SCL, 4 SDA, 5 GND, 6 NC

## SGP30-40-41
designator SGP30-40-41
footprint SGP30-40-41
pins: 1 Vcc, 2 GND, 3 SCL, 4 SDA

## Shift register 74HC164
designator DD?, comment 74HC164  (value not drawn)
footprint SOIC-14
pins: 1 DSA, 2 DSB, 3 Q0, 4 Q1, 5 Q2, 6 Q3, 7 GND, 8 CP, 9 MR, 10 Q4, 11 Q5, 12 Q6, 13 Q7, 14 Vcc

## SIM cadr 6pins
designator XT?
footprint SIM holder (big)
footprint SIM holder (mini) 6 pins
pins: 1 Vcc, 2 Rss, 3 CLK, 4 GND, 5 Vpp, 6 Data

## SP3232
designator DD?
footprint SO-16
pins: 1 C1+, 2 V+, 3 C1-, 4 C2+, 5 C2-, 6 V-, 7 Dout2, 8 Rin2, 9 Rout2, 10 Din2, 11 Din1, 12 Rout1, 13 Rin1, 14 Dout1, 15 GND, 16 Vcc

## ST1S10PHR (SO-8)
designator DA?
ST1S10PHR: *
footprint SO8 for STS10PHR
pins: 1 Vin, 2 INH(EN), 3 Vfb, 4 AGND, 5 SYNC, 6 Vin_sw, 7 SW, 8 PGND

## ST232
designator DD?
footprint SO-16
pins: 1 C1+, 2 V+, 3 C1-, 4 C2+, 5 C2-, 6 V-, 7 T2OUT, 8 R2IN, 9 R2OUT, 10 T2IN, 11 T1IN, 12 R1OUT, 13 R1IN, 14 T1OUT, 15 GND, 16 Vdd

## ST3485
designator DD?
ST1S10PHR: *
footprint SO8
pins: 1 RO, 2 ~{RE}, 3 DE, 4 DI, 5 GND, 6 A, 7 B, 8 Vcc

## STLED316S
designator DD?
footprint SO-24
pins: 1 DIN/DOUT, 2 CLK, 3 STB, 4 IRQ_N, 5 DIG1_LED, 6 DIG_2, 7 DIG_3, 8 DIG_4, 9 Vcc, 10 DIG_5, 11 DIG_6, 12 DIG_7, 13 SEG8/KS8, 14 SEG7KS7, 15 SEG6/KS6, 16 SEG5/KS5, 17 GND, 18 SEG4/KS4, 19 SEG3/KS3, 20 SEG2/KS2, 21 SEG1/KS1, 22 KEY2, 23 KEY1, 24 ISET

## STM3G030C8T6
designator DD?
STM8S105: *
footprint LQFP48  48-pin (7x7mm) (CQFP, 48-Leads, Body 9,00x9,00mm, Pitch 0,50mm, IPC Medium Density)
pins: 1 PC13, 2 PC14-OSC32_IN, 3 PC15-OSC32_OUT, 4 VBAT, 5 VREF+, 6 VDD/VDDA, 7 VSS/VSSA, 8 PF0-OSC_IN, 9 PF1-OSC_OUT, 10 NRST, 11 PA0, 12 PA1, 13 PA2, 14 PA3, 15 PA4, 16 PA5, 17 PA6, 18 PA7, 19 PB0, 20 PB1, 21 PB2, 22 PB10, 23 PB11, 24 PB12, 25 PB13, 26 PB14, 27 PB15, 28 PA8, 29 PA9, 30 PC6, 31 PC7, 32 PA10, 33 PA11 [PA9], 34 PA12 [PA10], 35 PA13, 36 PA14-BOOT0, 37 PA15, 38 PD0, 39 PD1, 40 PD2, 41 PD3, 42 PB3, 43 PB4, 44 PB5, 45 PB6, 46 PB7, 47 PB8, 48 PB9

## STM8S105 (LQFP-32 7x7mm)_1_1
designator DD?
STM8S105: *
footprint LQFP-32 (7x7mm)
pins: 1 NRST, 2 PA1, 3 PA2, 4 Vss, 5 Vcap, 6 Vdd, 7 Vddio, 8 PF4, 9 Vdda, 10 Vssa, 11 PB5, 12 PB4, 13 PB3, 14 PB2, 15 PB1, 16 PB0, 17 PE5, 18 PC1, 19 PC2, 20 PC3, 21 PC4, 22 PC5, 23 PC6, 24 PC7, 25 PD0, 26 PD1, 27 PD2, 28 PD3, 29 PD4, 30 PD5, 31 PD6, 32 PD7

## STM32F030F4
designator DD?
footprint TSSOP20 (TSOP, 20-Leads, Body 6,50x4,40mm, Pitch 0,65mm, IPC Medium Density)
pins: 1 BOOT0, 2 PF0_OSC_IN, 3 PF1_OSC_OUT, 4 NRST, 5 Vdda, 6 PA0, 7 PA1, 8 PA2, 9 PA3, 10 PA4, 11 PA5, 12 PA6, 13 PA7, 14 PB1, 15 Vss, 16 Vdd, 17 PA9, 18 PA10, 19 PA13, 20 PA14

## STM32F103C8  (LQFP-48)
designator DD?, comment STM32F103C8
STM8S105: *
footprint LQFP48  48-pin (7x7mm) (CQFP, 48-Leads, Body 9,00x9,00mm, Pitch 0,50mm, IPC Medium Density)
pins: 1 Vbat, 2 PC13, 3 PC14, 4 PC15, 5 PD0, 6 PD1, 7 NRST, 8 Vssa, 9 Vdda, 10 PA0, 11 PA1, 12 PA2, 13 PA3, 14 PA4, 15 PA5, 16 PA6, 17 PA7, 18 PB0, 19 PB1, 20 PB2, 21 PB10, 22 PB11, 23 Vss1, 24 Vdd1, 25 PB12, 26 PB13, 27 PB14, 28 PB15, 29 PA8, 30 PA9, 31 PA10, 32 PA11, 33 PA12, 34 PA13, 35 Vss2, 36 Vdd2, 37 PA14, 38 PA15, 39 PB3, 40 PB4, 41 PB5, 42 PB6, 43 PB7, 44 BOOT0, 45 PB8, 46 PB9, 47 Vss3, 48 Vdd3

## STM32F103C8t6
designator DD?
footprint STM32F103C8t6
pins: 1 Vbat, 2 PC13, 3 PC14, 4 PC15, 7 NRST, 10 PA0, 11 PA1, 12 PA2, 13 PA3, 14 PA4, 15 PA5, 16 PA6, 17 PA7, 18 PB0, 19 PB1, 20 3.3V, 21 PB10, 22 PB11, 23 GND, 24 GND, 25 BP12, 26 PB13, 27 PB14, 28 PB15, 29 PA8, 30 PA9, 31 PA10, 32 PA11, 33 PA12, 38 PA15, 39 PB3, 40 PB4, 41 PB5, 42 PB6, 43 PB7, 45 PB8, 46 PB9, 47 5V, 48 GND, 49 3.3V

## Supervisor
designator DA?, comment SOT23-3
MAX30x, ...
footprint SOT-23
pins: 1 GND, 2 RESET, 3 Vcc

## Switch_2
designator SB?
DS1040, SWD3, SWD1, ВДМ1
footprint Switch-2 DIP
footprint Switch-2 DIP Angle (DS1040)
pins: 1 *, 2 *, 3 *, 4 *

## Switch_4
designator SB?
DS1040, SWD3, SWD1, ВДМ1
footprint Switch-4 DIP Angle (DS1040, SWD1, SWD3, ВДМ)
footprint SWITCH-4 SMT (2.54mm)
pins: 1 *, 2 *, 3 *, 4 *, 5 *, 6 *, 7 *, 8 *

## Switch_8
designator SB?
footprint SWITCH-8 SMT
pins: 1 *, 2 *, 3 *, 4 *, 5 *, 6 *, 7 *, 8 *, 9 *, 10 *, 11 *, 12 *, 13 *, 14 *, 15 *, 16 *

## Thermistor
designator R?
Model: *; Manufacture: *; HelpURL: *; Case: *; Value: *
footprint Термистор NTCM-HP-2k2
pins: 1 *, 2 *
text: t°

## TL431
designator *  (value not drawn)
footprint SOT-23
pins: 1 Catode, 2 Ref, 3 Anode

## TLE4921-5U
designator DD?
Hall Sensor
footprint TLE4921-5U_ромб
footprint TLE4921-5U_прямо_ наклон
footprint TLE4921-5U_прямо_ровно
pins: 1 Vs, 2 Q, 3 GND, 4 C

## TP4056
designator DD?
ST1S10PHR: *
footprint SO8 for TP4056
pins: 1 TEMP, 2 PROG, 3 GND, 4 Vcc, 5 BAT, 6 STDBY, 7 CHRG, 8 CE

## TP4059
designator VD?
ST1S10PHR: *
footprint SOT23-6L
pins: 1 CHRG, 2 GND, 3 BAT, 4 Vcc, 5 STDBY, 6 PROG

## TPS60403
designator DA?
ST1S10PHR: *
footprint SOT23-5L
pins: 1 Out, 2 IN, 3 Cfly, 4 GND, 5 Cfly+

## Trans_Murata78253
designator DA?, comment Murata78253
ST1S10PHR: *
footprint Murata78253 (Transformer)
pins: 1, 2, 3, 4, 5, 6

## Trans_Myrra-44158
designator T?
footprint Трансформатор Myrra-44158
pins: 1, 5, 7, 9

## Transis bipol npn
designator VT?
footprint SOT-23
footprint SOT-23 micro
pins: 1 *, 2 *, 3 *

## Transis bipol npn (emitter from above)
designator VT?
footprint SOT-23
footprint SOT-23 micro
part A pins: 1 *, 2 *, 3 *
part B pins: 1 *, 2 *, 3 *

## Transis bipol pnp
designator VT?
footprint SOT-23
footprint SOT-23 micro
pins: 1 *, 2 *, 3 *

## Transis polev N-canal
designator VT?
footprint TO-220
footprint TO-220 with heatsink_1
footprint TO-220 with heatsink_2 (Ground pin)
footprint TO-220 with heatsink_3 (Ground pin)
footprint SOT-23_for_transistors (numbers of pads 2 and 3 are swapped to be correct UGO)
footprint SOT-23 micro_for_transistors (numbers of pads 2 and 3 are swapped to be correct UGO)
footprint TO-252 (DPAK)
footprint TO-92 _Straight
footprint TO-92_Formed_1
pins: 1 Gate, 2 Drain, 3 Source

## Transis polev P-canal
designator VT?
footprint SOT-23_for_transistors (numbers of pads 2 and 3 are swapped to be correct UGO)
footprint SOT-23 micro_for_transistors (numbers of pads 2 and 3 are swapped to be correct UGO)
footprint TO-252 (DPAK)
footprint TO-220
footprint TO-220 with heatsink_1
footprint TO-220 with heatsink_2 (Ground pin)
footprint TO-220 with heatsink_3 (Ground pin)
footprint TO-92 _Straight
footprint TO-92_Formed_1
pins: 1 Gate, 2 Drain, 3 Source

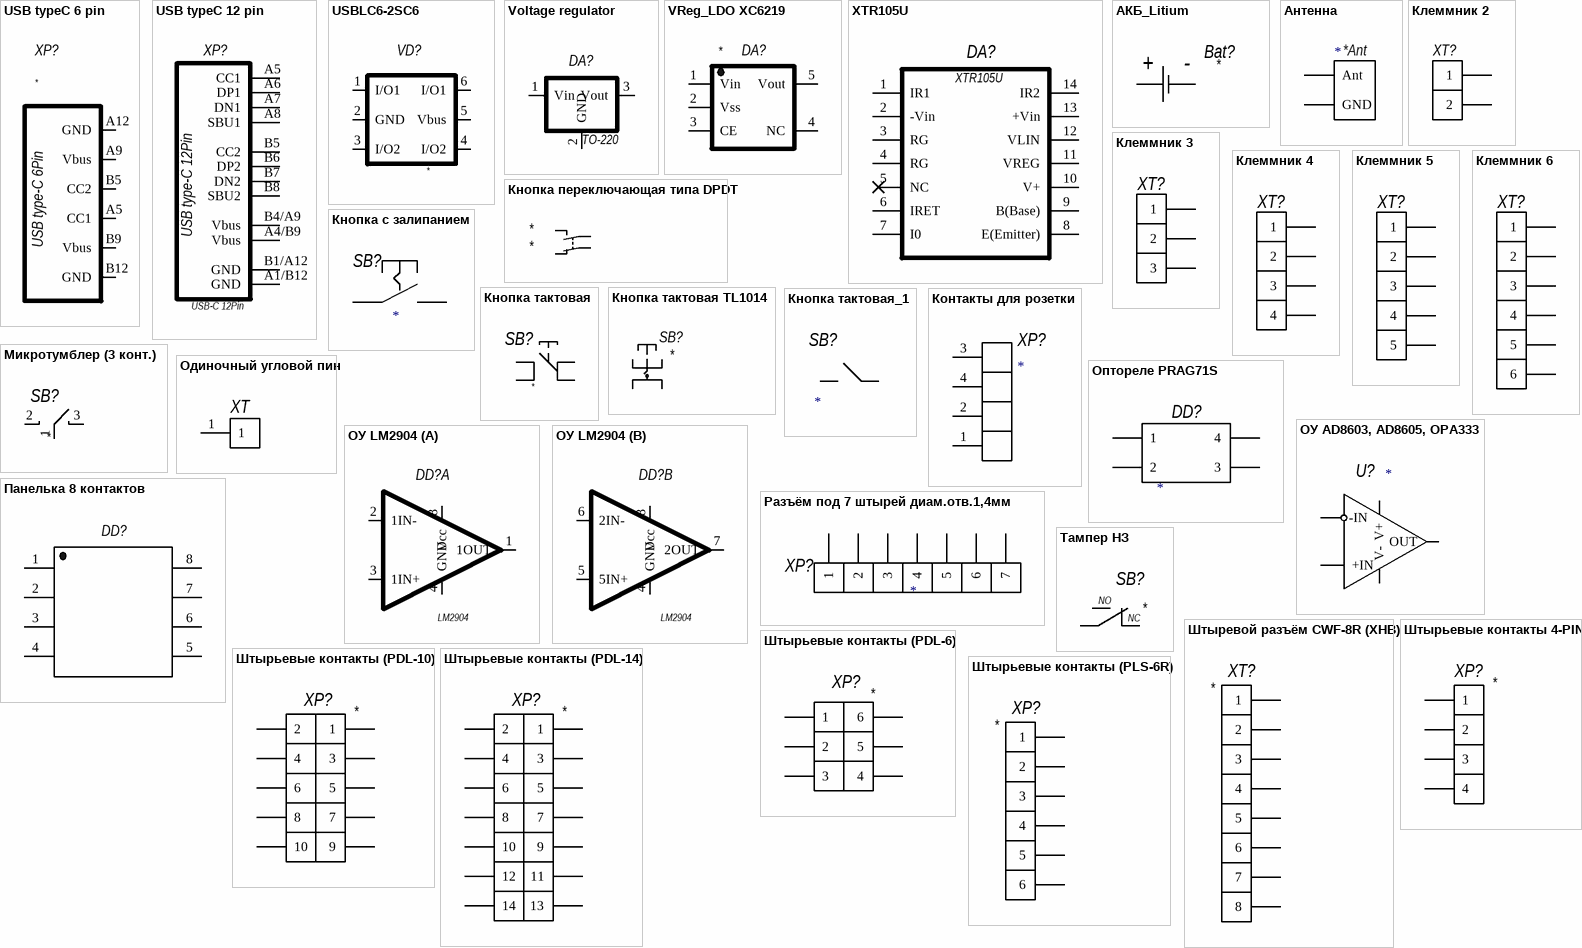
[diagram p4: symbols USB typeC 6 pin to Штырьевые контакты (PLS-6R)]

## USB typeC 6 pin
designator XP?
footprint USB type C 6pin
pins: A5 CC1, A9 Vbus, A12 GND, B5 СС2, B9 Vbus, B12 GND
text: USB type-C 6Pin

## USB typeC 12 pin
designator XP?, comment USB-C 12Pin
footprint USB type C 12pin
pins: A1/B12 GND, A4/B9 Vbus, A5 CC1, A6 DP1, A7 DN1, A8 SBU1, B1/A12 GND, B4/A9 Vbus, B5 CC2, B6 DP2, B7 DN2, B8 SBU2
text: USB type-C 12Pin

## USBLC6-2SC6
designator VD?
ST1S10PHR: *
footprint SOT23-6L
pins: 1 I/O1, 2 GND, 3 I/O2, 4 I/O2, 5 Vbus, 6 I/O1

## Voltage regulator
designator DA?, comment TO-220
footprint TO-220
footprint TO-220 with heatsink_1
footprint TO-220 with heatsink_2 (Ground pin)
footprint TO-220 with heatsink_3 (Ground pin)
footprint TO-252 (DPAK)
pins: 1 Vin, 2 GND, 3 Vout

## VReg_LDO XC6219
designator DA?
ST1S10PHR: *
footprint SOT23-5
pins: 1 Vin, 2 Vss, 3 CE, 4 NC, 5 Vout

## XTR105U
designator DA?
footprint SOIC-14
pins: 1 IR1, 2 -Vin, 3 RG, 4 RG, 5 NC, 6 IRET, 7 I0, 8 E(Emitter), 9 B(Base), 10 V+, 11 VREG, 12 VLIN, 13 +Vin, 14 IR2

## АКБ_Litium
designator Bat?
footprint АКБ Li-ion 18500 KEYS54
footprint АКБ Li-ion 18650 KEYS54
pins: 1 Bat+, 2 Bat-
text: +; -

## Антенна
designator *, comment *Ant
footprint Держатель антенны
pins: 1 Ant, 2 GND

## Клеммник 2
designator XT?  (value not drawn)
footprint Клеммник 2x5мм
footprint Клеммник 2x5мм 2-102-500
footprint Клеммник 2x3,5мм
pins: 1, 2

## Клеммник 3
designator XT?  (value not drawn)
footprint Клеммник 3x5мм
footprint Клеммник 3x5мм 3-102-500
footprint Клеммник 3x3,5мм
pins: 1, 2, 3

## Клеммник 4
designator XT?  (value not drawn)
footprint Клеммник 4x5мм
footprint Клеммник 4x3,5мм
pins: 1, 2, 3, 4

## Клеммник 5
designator XT?  (value not drawn)
footprint Клеммник 5x5мм
footprint Клеммник 5x3,5мм
pins: 1, 2, 3, 4, 5

## Клеммник 6
designator XT?  (value not drawn)
footprint Клеммник 6x5мм
footprint Клеммник 6x3,5мм
pins: 1, 2, 3, 4, 5, 6

## Кнопка переключающая типа DPDT
designator *
https://aliexpress.ru/item/4001254110484.html?spm=a2g2w.favourites.mywishlist.11.5a544aa6mhVFvA&_ga=2.261008587.758881393.1671697503-665188320.1662192737&sku_id=10000015482346631
footprint Кнопка типа DPDT 5.8x5.8x10.1 угловая с колпаком (https://aliexpress.ru/item/4001254110484.html?spm=a2g2w.favourites.mywishlist.11.5a544aa6mhVFvA&_ga=2.261008587.758881393.1671697503-665188320.1662192737&sku_id=10000015482346631)
footprint Кнопка типа DPDT 5.8x5.8x10.1 угловая (https://aliexpress.ru/item/4001254110484.html?spm=a2g2w.favourites.mywishlist.11.5a544aa6mhVFvA&_ga=2.261008587.758881393.1671697503-665188320.1662192737&sku_id=10000015482346631)
pins: 1 *, 2,5 *, 3 *, 4,6 *

## Кнопка с залипанием
designator SB?
footprint Под кнопку
pins: 1, 2

## Кнопка тактовая
designator SB?
footprint Кнопка тактовая 5мм
footprint Кнопка тактовая 8мм
footprint Кнопка тактовая 9.5мм
footprint Кнопка тактовая 13мм
footprint Кнопка тактовая 15мм
footprint Кнопка тактовая SMT 5.2x5.2-h1.5mm (TS-1187, TS-4401)
footprint Кнопка тактовая SMT 5.2x5.2-h1.6mm (TS-1187, TS-4401)
footprint Кнопка тактовая SMT 5.2x5.2-h1.7mm (TS-1187, TS-4401)
footprint Кнопка тактовая SMT 5.2x5.2-h1.9mm (TS-1187, TS-4401)
footprint Кнопка тактовая SMT 5.2x5.2-h2.0mm (TS-1187, TS-4401)
footprint Кнопка тактовая SMT 5.2x5.2-h2.3mm (TS-1187, TS-4401)
footprint Кнопка тактовая SMT 5.2x5.2-h2.5mm (TS-1187, TS-4401)
footprint Кнопка тактовая SMT 5.2x5.2-h3.0mm (TS-1187, TS-4401)
footprint Кнопка тактовая SMT 5.2x5.2-h3.5mm (TS-1187, TS-4401)
footprint Кнопка тактовая SMT 5.2x5.2-h4.0mm (TS-1187, TS-4401)
footprint Кнопка тактовая SMT 5.2x5.2-h4.3mm (TS-1187, TS-4401)
footprint Кнопка тактовая SMT 5.2x5.2-h5.0mm (TS-1187, TS-4401)
footprint Кнопка тактовая SMT 6.0x6.0-h4.3mm (IT-1102)
footprint Кнопка тактовая SMT 6.0x6.0-h5.0mm (IT-1102)
footprint Кнопка тактовая SMT 6.0x6.0-h6.0mm (IT-1102)
footprint Кнопка тактовая SMT 6.0x6.0-h7.0mm (IT-1102)
footprint Кнопка тактовая SMT 6.0x6.0-h8.0mm (IT-1102)
footprint Кнопка тактовая SMT 6.0x6.0-h9.0mm (IT-1102)
footprint Кнопка тактовая SMT 6.0x6.0-h10.0mm (IT-1102)
footprint Кнопка тактовая SMT 6.0x6.0-h11.0mm (IT-1102)
footprint Кнопка тактовая SMT 6.0x6.0-h12.0mm (IT-1102)
pins: 1 *, 2 *, 3 *, 4 *

## Кнопка тактовая TL1014
designator SB?
footprint Кнопка TL1014-A 4.7x3.5-h1.65mm (TL-1014-A-No Boss)
footprint Кнопка TL1014-B 4.7x3.5-h1.65mm (TL-1014-B-With Boss)
pins: 1 *, 2 *, 3 *, 4 *

## Кнопка тактовая_1
designator SB?
footprint Кнопка тактовая 1
pins: 1 *, 2 *

## Контакты для розетки
designator XP?
footprint Разъём для розетки извещателя
pins: 1 *, 2 *, 3 *, 4 *

## Микротумблер (3 конт.)
designator SB?
footprint Микротумблер MTS-103
footprint Микротумблер MTS-102 (ON-ON 3A 250VAC)
pins: 1, 2, 3

## Одиночный угловой пин
designator XT  (value not drawn)
footprint Угловой штырь
pins: 1

## Оптореле PRAG71S
designator DD?
footprint SOP-4
pins: 1, 2, 3, 4

## ОУ AD8603, AD8605, OPA333
designator U?
ОУ AD8603, AD8605, OPA333
footprint TSOT-5
pins: 1 OUT, 2 V-, 3 +IN, 4 -IN, 5 V+

## ОУ LM2904
designator DD?, comment LM2904
ST1S10PHR: *
footprint SO8
part A pins: 1 1OUT, 2 1IN-, 3 1IN+, 4 GND, 8 Vcc
part B pins: 4 GND, 5 5IN+, 6 2IN-, 7 2OUT, 8 Vcc

## Панелька 8 контактов
designator DD?
ST1S10PHR: *
footprint DIP-8 (7.62mm) Panel
pins: 1, 2, 3, 4, 5, 6, 7, 8

## Разъём под 7 штырей диам.отв.1,4мм
designator XP?
footprint Разъём под 7 штырей 5,08мм, диам.отв.1.4
pins: 1, 2, 3, 4, 5, 6, 7

## Тампер НЗ
designator SB?
footprint Tamper micro switch
footprint Tamper DM-03P micro switch (micro switch)
pins: Com *, NC *, NO

## Штыревой разъём CWF-8R (XHB)
designator XT?
footprint CWF-8R (XHB)
pins: 1, 2, 3, 4, 5, 6, 7, 8

## Штырьевые контакты 4-PIN
designator XP?
footprint PLS-4R (Штыри 2.54)
footprint PBS-4 (DS1023) 2.54x8.5
pins: 1, 2, 3, 4

## Штырьевые контакты (PDL-6)
designator XP?
footprint PLD-6 (Штыри 2.54)
pins: 1, 2, 3, 4, 5, 6

## Штырьевые контакты (PDL-10)
designator XP?
footprint PLD-10 (Штыри 2.54)
pins: 1, 2, 3, 4, 5, 6, 7, 8, 9, 10

## Штырьевые контакты (PDL-14)
designator XP?
footprint PLD-14 (Штыри 2.54)
pins: 1, 2, 3, 4, 5, 6, 7, 8, 9, 10, 11, 12, 13, 14

## Штырьевые контакты (PLS-6R)
designator XP?
footprint PLS-6R (Штыри 2.54)
pins: 1, 2, 3, 4, 5, 6